# Altium footprint library gini_base_pcb.PCBLIB: 175 footprints (part 8 of 11)
Each footprint in its own frame and in the unit in brackets; x right, y up, seen from the top. Pads: shape width x height; smd on the part's side, far side on the other; paste and mask are expansions set on the pad; w line width, h text height; cw(c..) or ccw(c..) is an arc to the next point about the centre after c.
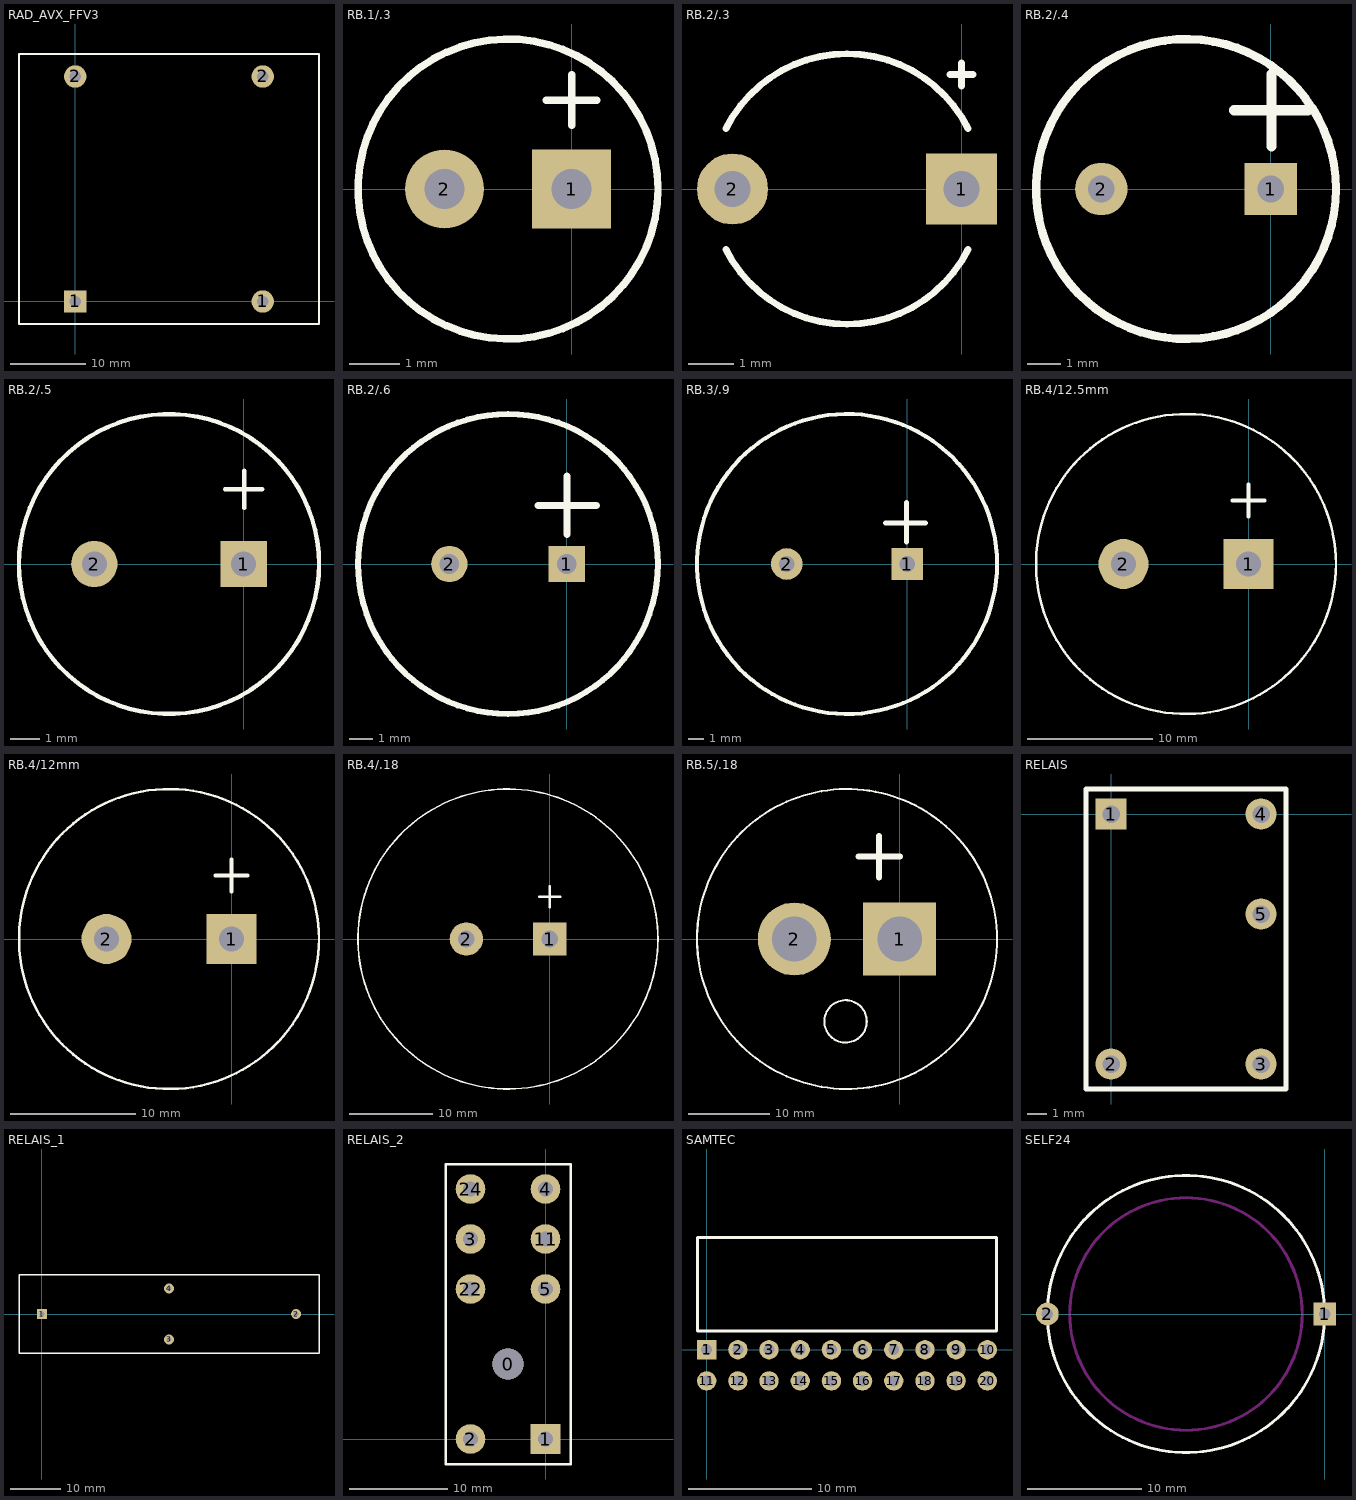
[diagram p7: the footprints below, top view; thin cyan lines are the x and y axes]

## RAD_AVX_FFV3 [mm]
pads (4):
  rect 3x3 hole 1.5: 1(0,0)
  round 3 hole 1.5: 1(25,0) 2(0,30) 2(25,30)
TopOverlay:
  lines w0.254: -7.5,-3 32.5,-3 32.5,33 -7.5,33 -7.5,-3

## RB.1/.3 [mil]
pads (2):
  rect 62x62 hole 31.5: 1(0,0)
  round 62 hole 31.5: 2(-100,0)
TopOverlay:
  circle w5.91: c-50,0 r118.11
  lines w5.91: -20,70 20,70 ; 0,50 0,90

## RB.2/.3 [mil]
pads (2):
  rect 62x62 hole 31.5: 1(0,0)
  round 62 hole 31.5: 2(-200,0)
TopOverlay:
  lines w5.91: -205.64,-52.82 ccw(c-100,0) 5.64,-52.82 ; -205.64,52.82 cw(c-100,0) 5.64,52.82 ; -10,100 10,100 ; 0,90 0,110

## RB.2/.4 [mil]
pads (2):
  rect 62x62 hole 31.5: 1(0,0)
  round 62 hole 31.5: 2(-200,0)
TopOverlay:
  circle w10: c-100,0 r177.17
  lines w12: -43,93 44,93 ; 1,50 1,136
3D body: height 649.61, standoff -511.81, extent -298.22,-193.89 95.48,199.81

## RB.2/.5 [mil] "100µf/220µf"
pads (2):
  rect 62x62 hole 33.46: 1(0,0)
  round 62 hole 33.46: 2(-200,0)
TopOverlay:
  circle w5.91: c-100,0 r200.79
  lines w5.91: -25,100 25,100 ; 1,75 1,125
3D body: height 504.94, standoff -144.78, extent -299.82,-197.26 95.87,198.44

## RB.2/.6 [mil]
pads (2):
  rect 62x62 hole 33.46: 1(0,0)
  round 62 hole 33.46: 2(-200,0)
TopOverlay:
  circle w10: c-100,0 r255.91
  lines w12: -49,100 51,100 ; 1,50 1,150

## RB.3/.9 [mm]
pads (2):
  rect 2x2 hole 1: 1(0,0)
  round 2 hole 1: 2(-7.62,0)
TopOverlay:
  circle w0.254: c-3.81,0 r9.5
  lines w0.305: -1.372,2.591 1.168,2.591 ; -0.051,1.372 -0.051,3.912

## RB.4/12.5mm [mm]
pads (2):
  rect 4x4 hole 2: 1(0,0)
  round 4 hole 2: 2(-10,0)
TopOverlay:
  circle w0.2: c-5,0 r12
  lines w0.305: -1.27,5.08 1.27,5.08 ; 0,3.81 0,6.35

## RB.4/12mm [mm]
pads (2):
  rect 4x4 hole 2: 1(0,0)
  round 4 hole 2: 2(-10,0)
TopOverlay:
  circle w0.2: c-5,0 r12
  lines w0.305: -1.27,5.08 1.27,5.08 ; 0,3.81 0,6.35

## RB.4/.18 [mm]
pads (2):
  rect 4x4 hole 2: 1(0,0)
  round 4 hole 2: 2(-10,0)
TopOverlay:
  circle w0.2: c-5,0 r18
  lines w0.305: -1.27,5.08 1.27,5.08 ; 0,3.81 0,6.35

## RB.5/.18 [mm]
pads (2):
  rect 9x9 hole 5.5: 1(0,0)
  round 9 hole 5.5: 2(-13,0)
TopOverlay:
  circle w0.254: c-6.679,-10.16 r2.615
  circle w0.254: c-6.5,0 r18.5
  lines w0.762: -5.08,10.16 0,10.16 ; -2.54,7.62 -2.54,12.7

## RELAIS [mil]
pads (5):
  rect 62x62 hole 35: 1(0,0)
  round 62 hole 35: 2(0,-500) 3(300,-500) 4(300,0) 5(300,-200)
TopOverlay:
  lines w10: -50,-550 -50,50 350,50 350,-550 -50,-550

## RELAIS_1 [mm]
pads (4):
  rect 2x2 hole 1: 1(0,0)
  round 2 hole 1: 2(50.8,0) 3(25.4,-5.08) 4(25.4,5.08)
TopOverlay:
  lines w0.254: -4.572,-7.874 -4.572,7.874 55.372,7.874 55.372,-7.874 -4.572,-7.874

## RELAIS_2 [mm]
pads (9):
  round 3.2 hole 3.2: 0(-3.81,7.62)
  rect 3x3 hole 1.5: 1(0,0)
  round 3 hole 1.5: 2(-7.62,0) 3(-7.62,20.32) 4(0,25.4) 5(0,15.24) 11(0,20.32) 22(-7.62,15.24) 24(-7.62,25.4)
TopOverlay:
  lines w0.254: -10.16,-2.54 2.54,-2.54 2.54,27.94 -10.16,27.94 -10.16,-2.54

## SAMTEC [mil]
pads (20):
  rect 62x62 hole 35: 1(0,0)
  round 62 hole 35: 2(100,0) 3(200,0) 4(300,0) 5(400,0) 6(500,0) 7(600,0) 8(700,0) 9(800,0) 10(900,0) 11(0,-100) 12(100,-100) 13(200,-100) 14(300,-100) 15(400,-100) 16(500,-100) 17(600,-100) 18(700,-100) 19(800,-100) 20(900,-100)
TopOverlay:
  lines w10: -30,60 930,60 930,360 -30,360 -30,60

## SELF24 [mm]
pads (2):
  rect 2x2 hole 1: 1(0,0)
  round 2 hole 1: 2(-24.384,0)
TopLayer keep-out:
  circle w0.254: c-12.192,0 r10.226
TopOverlay:
  circle w0.254: c-12.192,0 r12.192